# Altium schematic symbol library MiniUSB - ED90341CT-ND.Schlib: 1 symbol
Pins are listed as number, name and electrical type; pins without a type are passive.

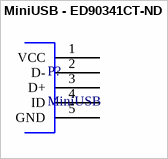
[diagram p0: symbol MiniUSB - ED90341CT-ND]

## MiniUSB - ED90341CT-ND
designator P?, comment MiniUSB
MiniUSB - ID may not be used
pins: 1 VCC, 2 D-, 3 D+, 4 ID, 5 GND